# Altium footprint library MainPCB1.PcbLib: 49 footprints (part 3 of 4)
Each footprint in its own frame and in the unit in brackets; x right, y up, seen from the top. Pads: shape width x height; smd on the part's side, far side on the other; paste and mask are expansions set on the pad; w line width, h text height; cw(c..) or ccw(c..) is an arc to the next point about the centre after c.
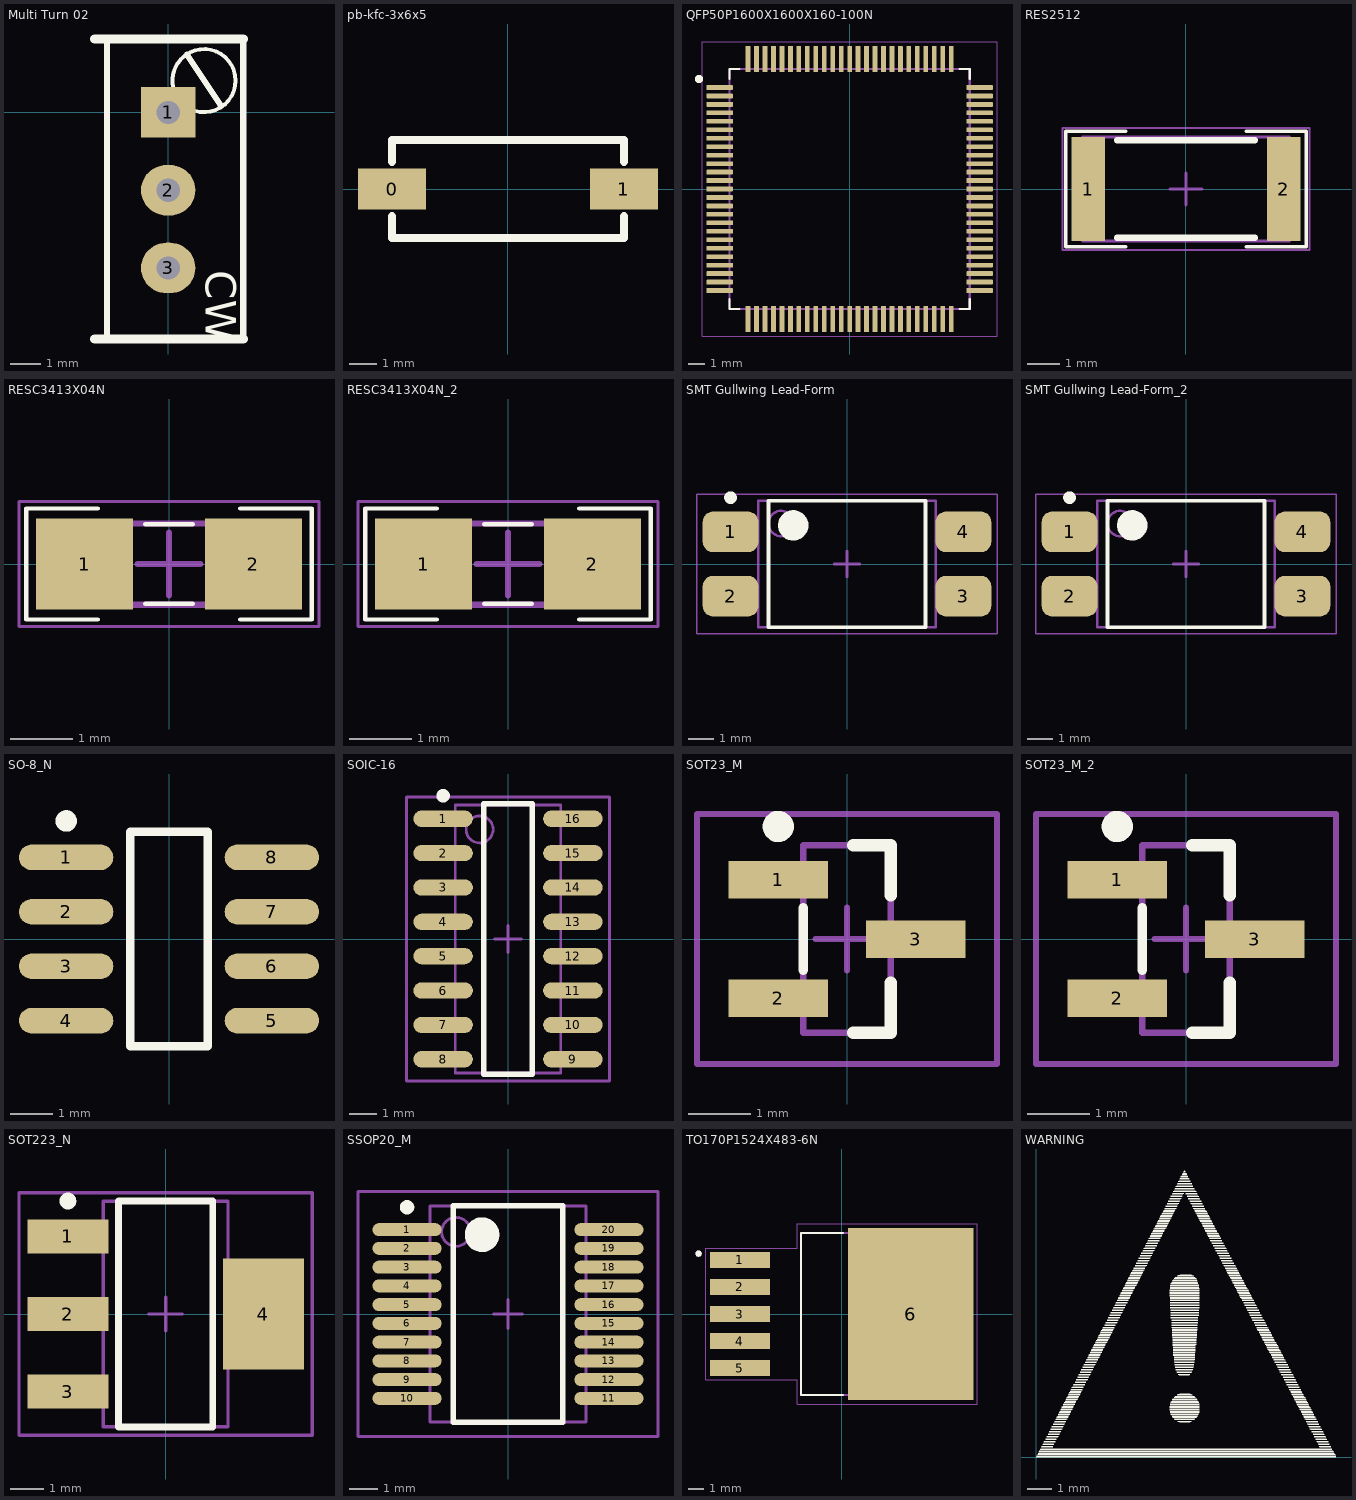
[diagram p2: the footprints below, top view; thin cyan lines are the x and y axes]

## Multi Turn 02 [mil]
pads (3):
  rect 70x65 hole 30: 1(0,0)
  oval 70x65 hole 30: 2(0,-100) 3(0,-200)
Top Overlay:
  circle w5: c46.03,40.94 r40.58
  lines w7.87: -78.74,-291.34 -78.74,94.49 ; 24.02,74.41 67.72,8.66 ; 96.46,-291.34 96.46,94.49
  lines w11.81: -94.49,-291.34 96.46,-291.34 ; -94.49,94.49 96.46,94.49
  text "CW" at 48,-203 h39.37
3D body "multiturn.STEP": height 452.18, standoff -75.38, extent -73.23,-285.04 92.52,88.98

## pb-kfc-3x6x5 [mm] "taktile switch"
pads (2):
  rect 2.5x1.5 smd: 0(-4.25,0) 1(4.25,0)
Top Overlay:
  lines w0.3: -4.25,-1 -4.25,-1.8 4.25,-1.8 4.25,-1 ; -4.25,1 -4.25,1.8 4.25,1.8 4.25,1
3D body: height 3.5, standoff 3.45, extent -4.25,-1.8 4.25,1.8
3D body: height 3.45, standoff 0, extent -4.25,-1.8 4.25,1.8
3D body: height 5, standoff 3, extent -1.5,-0.75 1.5,0.75

## QFP50P1600X1600X160-100N [mm]
pads (100):
  rrect25% 1.56x0.28 smd: 1(-7.68,6) 2(-7.68,5.5) 3(-7.68,5) 4(-7.68,4.5) 5(-7.68,4) 6(-7.68,3.5) 7(-7.68,3) 8(-7.68,2.5) 9(-7.68,2) 10(-7.68,1.5) 11(-7.68,1) 12(-7.68,0.5) 13(-7.68,0) 14(-7.68,-0.5) 15(-7.68,-1) 16(-7.68,-1.5) 17(-7.68,-2) 18(-7.68,-2.5) 19(-7.68,-3) 20(-7.68,-3.5) 21(-7.68,-4) 22(-7.68,-4.5) 23(-7.68,-5) 24(-7.68,-5.5) 25(-7.68,-6) 51(7.68,-6) 52(7.68,-5.5) 53(7.68,-5) 54(7.68,-4.5) 55(7.68,-4) 56(7.68,-3.5) 57(7.68,-3) 58(7.68,-2.5) 59(7.68,-2) 60(7.68,-1.5) 61(7.68,-1) 62(7.68,-0.5) 63(7.68,0) 64(7.68,0.5) 65(7.68,1) 66(7.68,1.5) 67(7.68,2) 68(7.68,2.5) 69(7.68,3) 70(7.68,3.5) 71(7.68,4) 72(7.68,4.5) 73(7.68,5) 74(7.68,5.5) 75(7.68,6)
  rrect25% 0.28x1.56 smd: 26(-6,-7.68) 27(-5.5,-7.68) 28(-5,-7.68) 29(-4.5,-7.68) 30(-4,-7.68) 31(-3.5,-7.68) 32(-3,-7.68) 33(-2.5,-7.68) 34(-2,-7.68) 35(-1.5,-7.68) 36(-1,-7.68) 37(-0.5,-7.68) 38(0,-7.68) 39(0.5,-7.68) 40(1,-7.68) 41(1.5,-7.68) 42(2,-7.68) 43(2.5,-7.68) 44(3,-7.68) 45(3.5,-7.68) 46(4,-7.68) 47(4.5,-7.68) 48(5,-7.68) 49(5.5,-7.68) 50(6,-7.68) 76(6,7.68) 77(5.5,7.68) 78(5,7.68) 79(4.5,7.68) 80(4,7.68) 81(3.5,7.68) 82(3,7.68) 83(2.5,7.68) 84(2,7.68) 85(1.5,7.68) 86(1,7.68) 87(0.5,7.68) 88(0,7.68) 89(-0.5,7.68) 90(-1,7.68) 91(-1.5,7.68) 92(-2,7.68) 93(-2.5,7.68) 94(-3,7.68) 95(-3.5,7.68) 96(-4,7.68) 97(-4.5,7.68) 98(-5,7.68) 99(-5.5,7.68) 100(-6,7.68)
Top Overlay:
  circle w0.24: c-8.9,6.5 r0.12
  lines w0.127: -7.1,-6.5 -7.1,-7.1 -6.5,-7.1 ; -7.1,6.5 -7.1,7.1 -6.5,7.1 ; 6.5,-7.1 7.1,-7.1 7.1,-6.5 ; 6.5,7.1 7.1,7.1 7.1,6.5
Mechanical 13:
  lines w0.127: -7.1,-7.1 -7.1,7.1 7.1,7.1 7.1,-7.1 -7.1,-7.1
Mechanical 15:
  lines w0.05: -8.71,-8.71 -8.71,8.71 8.71,8.71 8.71,-8.71 -8.71,-8.71
3D body "STM32F107VCT6.STEP": height 1.6, standoff 0, extent -8,-8 8,8

## RES2512 [mm] "Chip Resistor, 2-Leads, Body 6/40x3/20mm, IPC Medium Density DESIGNER:ABBAS BASEREH"
height 0.7
pads (2):
  rect 1.05x3.25 smd: 1(-3.05,0) 2(3.05,0)
Top Overlay:
  lines w0.1: -1.875,-1.8 -3.75,-1.8 -3.75,1.8 -1.875,1.8 ; 1.875,-1.8 3.75,-1.8 3.75,1.8 1.875,1.8
  lines w0.2: -2.15,-1.525 2.15,-1.525 ; -2.15,1.525 2.15,1.525
Mechanical 13:
  lines w0.1: -3.225,-1.625 -3.225,1.625 3.225,1.625 3.225,-1.625 -3.225,-1.625
Mechanical 15:
  lines w0.05: -3.85,-1.9 -3.85,1.9 3.85,1.9 3.85,-1.9 -3.85,-1.9
  lines w0.1: -0.5,0 0.5,0 ; 0,-0.5 0,0.5
3D body "RES2512.step": height 0.7, standoff 0, extent -3.225,-1.625 3.225,1.625

## RESC3413X04N [mm] "Chip Resistor, 2-Leads, Body 3/40x1/30mm, IPC Medium Density-Design:Abbas Basereh"
height 0.4
pads (2):
  rect 1.55x1.45 smd: 1(-1.35,0) 2(1.35,0)
Top Overlay:
  lines w0.07: -1.143,-0.889 -2.286,-0.889 -2.286,0.889 -1.143,0.889 ; -0.381,-0.635 0.381,-0.635 ; -0.381,0.635 0.381,0.635 ; 1.143,-0.889 2.286,-0.889 2.286,0.889 1.143,0.889
Mechanical 13:
  lines w0.1: -1.7,-0.65 -1.7,0.65 1.7,0.65 1.7,-0.65 -1.7,-0.65
Mechanical 15:
  lines w0.05: -2.4,-1 -2.4,1 2.4,1 2.4,-1 -2.4,-1
  lines w0.1: -0.5,0 0.5,0 ; 0,-0.5 0,0.5
3D body "User Library-0805(2012M) Res.STEP": height 0.79, standoff 0, extent -1.254,-0.622 1.254,0.622

## RESC3413X04N_2 [mm]
pads (2):
  rect 1.55x1.45 smd: 1(-1.35,0) 2(1.35,0)
Top Overlay:
  lines w0.07: -1.143,-0.889 -2.286,-0.889 -2.286,0.889 -1.143,0.889 ; -0.381,-0.635 0.381,-0.635 ; -0.381,0.635 0.381,0.635 ; 1.143,-0.889 2.286,-0.889 2.286,0.889 1.143,0.889
Mechanical 13:
  lines w0.1: -1.7,-0.65 1.7,-0.65 1.7,0.65 -1.7,0.65 -1.7,-0.65
Mechanical 15:
  lines w0.05: -2.4,-1 2.4,-1 2.4,1 -2.4,1 -2.4,-1
  lines w0.1: -0.5,0 0.5,0 ; 0,-0.5 0,0.5
3D body "User Library-0805(2012M) Res.STEP": height 0.79, standoff 0, extent -1.254,-0.622 1.254,0.622

## SMT Gullwing Lead-Form [mm] "SOP, 4-Leads, Body 4/65x6/75mm, Pitch 2/54mm, IPC Medium Density designer:abbas basereh"
height 3.5
pads (4):
  rrect50% 2.2x1.6 smd mask+0.06: 1(-4.6,1.27) 2(-4.6,-1.27) 3(4.6,-1.27) 4(4.6,1.27)
Top Overlay:
  circle w0.25: c-4.6,2.62 r0.125
  circle w0.6: c-2.125,1.525 r0.3
  lines w0.15: -3.1,-2.5 -3.1,2.5 3.1,2.5 3.1,-2.5 -3.1,-2.5
Mechanical 13:
  circle w0.1: c-2.6,1.6 r0.5
  lines w0.1: -3.5,-2.5 -3.5,2.5 3.5,2.5 3.5,-2.5 -3.5,-2.5
Mechanical 15:
  lines w0.05: -5.925,-2.75 -5.925,2.75 5.925,2.75 5.925,-2.75 -5.925,-2.75
  lines w0.1: -0.5,0 0.5,0 ; 0,-0.5 0,0.5
3D body "User Library-PC817_Gullwing.STEP": height 3.89, standoff 0.04, extent -5,-2.29 5,2.29

## SMT Gullwing Lead-Form_2 [mm]
pads (4):
  rrect50% 2.2x1.6 smd mask+0.06: 1(-4.6,1.27) 2(-4.6,-1.27) 3(4.6,-1.27) 4(4.6,1.27)
Top Overlay:
  circle w0.6: c-2.125,1.525 r0.3
  circle w0.25: c-4.6,2.62 r0.125
  lines w0.15: -3.1,-2.5 3.1,-2.5 3.1,2.5 -3.1,2.5 -3.1,-2.5
Mechanical 13:
  circle w0.1: c-2.6,1.6 r0.5
  lines w0.1: -3.5,-2.5 3.5,-2.5 3.5,2.5 -3.5,2.5 -3.5,-2.5
Mechanical 15:
  lines w0.05: -5.925,-2.75 5.925,-2.75 5.925,2.75 -5.925,2.75 -5.925,-2.75
  lines w0.1: -0.5,0 0.5,0 ; 0,-0.5 0,0.5
3D body "User Library-PC817_Gullwing.STEP": height 3.89, standoff 0.04, extent -5,-2.29 5,2.29

## SO-8_N [mm] "SOIC, 8-Leads, Body 4.9x3.9mm, Pitch 1.27mm, IPC Medium Density"
height 1.75
pads (8):
  oval 2.2x0.6 smd: 1(-2.4,1.905) 2(-2.4,0.635) 3(-2.4,-0.635) 4(-2.4,-1.905) 5(2.4,-1.905) 6(2.4,-0.635) 7(2.4,0.635) 8(2.4,1.905)
Top Overlay:
  circle w0.25: c-2.4,2.755 r0.125
  lines w0.2: -0.9,-2.5 -0.9,2.5 0.9,2.5 0.9,-2.5 -0.9,-2.5
3D body "so-8.step": height 1.88, standoff -0.03, extent -3.169,-2.515 3.169,2.489

## SOIC-16 [mm] "SOIC, 16-Leads, Body 9.9x3.9mm, Pitch 1.27mm, IPC Medium Density"
height 1.75
pads (16):
  oval 2.2x0.6 smd: 1(-2.4,4.445) 2(-2.4,3.175) 3(-2.4,1.905) 4(-2.4,0.635) 5(-2.4,-0.635) 6(-2.4,-1.905) 7(-2.4,-3.175) 8(-2.4,-4.445) 9(2.4,-4.445) 10(2.4,-3.175) 11(2.4,-1.905) 12(2.4,-0.635) 13(2.4,0.635) 14(2.4,1.905) 15(2.4,3.175) 16(2.4,4.445)
Top Overlay:
  circle w0.25: c-2.4,5.295 r0.125
  lines w0.2: -0.9,-5 0.9,-5 0.9,5 -0.9,5 -0.9,-5
Mechanical 13:
  circle w0.1: c-1.05,4.05 r0.5
  lines w0.1: -1.95,-4.95 1.95,-4.95 1.95,4.95 -1.95,4.95 -1.95,-4.95
Mechanical 15:
  lines w0.1: -0.5,0 0.5,0 ; 0,-0.5 0,0.5 ; -3.75,-5.25 3.75,-5.25 3.75,5.25 -3.75,5.25 -3.75,-5.25
3D body "User Library-SOIC-16-2.STEP": height 1.75, standoff 0, extent -2.977,-4.996 3.023,5.004

## SOT23_M [mm] "SOT23, 3-Leads, Body 2.9x1.3mm, Pitch 0.95mm, Lead Span 2.3mm, IPC Low Density"
height 1.1
pads (3):
  rect 1.6x0.6 smd: 1(-1.1,0.95) 2(-1.1,-0.95) 3(1.1,0)
Top Overlay:
  circle w0.25: c-1.1,1.8 r0.125
  lines w0.15: -0.7,-0.5 -0.7,0.5
  lines w0.2: 0.1,-1.5 0.7,-1.5 0.7,-0.7 ; 0.1,1.5 0.7,1.5 0.7,0.7
Mechanical 13:
  lines w0.1: -0.7,-1.5 0.7,-1.5 0.7,1.5 -0.7,1.5 -0.7,-1.5
Mechanical 15:
  lines w0.1: -0.5,0 0.5,0 ; 0,-0.5 0,0.5 ; -2.4,-2 2.4,-2 2.4,2 -2.4,2 -2.4,-2
3D body "User Library-SOT-23-3-1.STEP": height 1.1, standoff 0, extent -1.271,-1.5 1.271,1.5

## SOT23_M_2 [mm]
pads (3):
  rect 1.6x0.6 smd: 1(-1.1,0.95) 2(-1.1,-0.95) 3(1.1,0)
Top Overlay:
  circle w0.25: c-1.1,1.8 r0.125
  lines w0.15: -0.7,-0.5 -0.7,0.5
  lines w0.2: 0.1,-1.5 0.7,-1.5 0.7,-0.7 ; 0.1,1.5 0.7,1.5 0.7,0.7
Mechanical 13:
  lines w0.1: -0.7,-1.5 0.7,-1.5 0.7,1.5 -0.7,1.5 -0.7,-1.5
Mechanical 15:
  lines w0.1: -0.5,0 0.5,0 ; 0,-0.5 0,0.5 ; -2.4,-2 2.4,-2 2.4,2 -2.4,2 -2.4,-2
3D body "User Library-SOT-23-3-1.STEP": height 1.1, standoff 0, extent -1.271,-1.5 1.271,1.5

## SOT223_N [mm] "SOT223, 4-Leads, Body 6.5x3.5mm, Pitch 2.3mm, Lead Span 7mm, IPC Medium Density"
height 1.8
pads (4):
  rect 2.4x1 smd: 1(-2.9,2.3) 2(-2.9,0) 3(-2.9,-2.3)
  rect 2.4x3.3 smd: 4(2.9,0)
Top Overlay:
  circle w0.25: c-2.9,3.35 r0.125
  lines w0.2: -1.4,-3.35 -1.4,3.35 1.4,3.35 1.4,-3.35 -1.4,-3.35
Mechanical 13:
  lines w0.1: -1.85,-3.35 -1.85,3.35 1.85,3.35 1.85,-3.35 -1.85,-3.35
Mechanical 15:
  lines w0.1: -0.5,0 0.5,0 ; 0,-0.5 0,0.5 ; -4.35,-3.6 -4.35,3.6 4.35,3.6 4.35,-3.6 -4.35,-3.6
3D body "TO-223.STEP": height 1.64, standoff -0.04, extent -3.49,-3.242 3.49,3.242

## SSOP20_M [mm] "SOP, 20-Leads, Body 7.2x5.3mm, Pitch 0.65mm, IPC Low Density"
height 1.99
pads (20):
  oval 2.4x0.45 smd: 1(-3.5,2.925) 2(-3.5,2.275) 3(-3.5,1.625) 4(-3.5,0.975) 5(-3.5,0.325) 6(-3.5,-0.325) 7(-3.5,-0.975) 8(-3.5,-1.625) 9(-3.5,-2.275) 10(-3.5,-2.925) 11(3.5,-2.925) 12(3.5,-2.275) 13(3.5,-1.625) 14(3.5,-0.975) 15(3.5,-0.325) 16(3.5,0.325) 17(3.5,0.975) 18(3.5,1.625) 19(3.5,2.275) 20(3.5,2.925)
Top Overlay:
  circle w0.6: c-0.9,2.75 r0.3
  circle w0.25: c-3.5,3.7 r0.125
  lines w0.2: -1.9,-3.75 1.9,-3.75 1.9,3.75 -1.9,3.75 -1.9,-3.75
Mechanical 13:
  circle w0.1: c-1.8,2.85 r0.5
  lines w0.1: -2.7,-3.75 2.7,-3.75 2.7,3.75 -2.7,3.75 -2.7,-3.75
Mechanical 15:
  lines w0.1: -0.5,0 0.5,0 ; 0,-0.5 0,0.5 ; -5.2,-4.25 5.2,-4.25 5.2,4.25 -5.2,4.25 -5.2,-4.25
3D body: height 1.99, standoff 0, extent -2.7,-3.75 2.7,3.75

## TO170P1524X483-6N [mm]
pads (6):
  rect 3.79x0.99 smd: 1(-6.4,3.4) 2(-6.4,1.7) 3(-6.4,0) 4(-6.4,-1.7) 5(-6.4,-3.4)
  rect 7.88x10.84 smd paste-6: 6(4.35,0)
Top Overlay:
  circle w0.2: c-9,3.8 r0.1
  lines w0.127: 0.09,-5.08 -2.553,-5.08 -2.553,5.08 0.09,5.08
Top Paste:
  region: 5.11,0.28 3.59,0.28 3.59,1.53 5.11,1.53
  region: 2.48,0.28 0.96,0.28 0.96,1.53 2.48,1.53
  region: 7.74,0.28 6.22,0.28 6.22,1.53 7.74,1.53
  region: 5.11,2.09 3.59,2.09 3.59,3.34 5.11,3.34
  region: 2.48,2.09 0.96,2.09 0.96,3.34 2.48,3.34
  region: 7.74,2.09 6.22,2.09 6.22,3.34 7.74,3.34
  region: 5.11,3.9 3.59,3.9 3.59,5.15 5.11,5.15
  region: 2.48,3.9 0.96,3.9 0.96,5.15 2.48,5.15
  region: 7.74,3.9 6.22,3.9 6.22,5.15 7.74,5.15
  region: 5.11,-1.53 3.59,-1.53 3.59,-0.28 5.11,-0.28
  region: 2.48,-1.53 0.96,-1.53 0.96,-0.28 2.48,-0.28
  region: 7.74,-1.53 6.22,-1.53 6.22,-0.28 7.74,-0.28
  region: 5.11,-3.34 3.59,-3.34 3.59,-2.09 5.11,-2.09
  region: 2.48,-3.34 0.96,-3.34 0.96,-2.09 2.48,-2.09
  region: 7.74,-3.34 6.22,-3.34 6.22,-2.09 7.74,-2.09
  region: 5.11,-5.15 3.59,-5.15 3.59,-3.9 5.11,-3.9
  region: 2.48,-5.15 0.96,-5.15 0.96,-3.9 2.48,-3.9
  region: 7.74,-5.15 6.22,-5.15 6.22,-3.9 7.74,-3.9
Mechanical 13:
  circle w0.2: c-9,3.8 r0.1
  lines w0.127: -2.553,-5.08 6.368,-5.08 6.368,5.08 -2.553,5.08 -2.553,-5.08
Mechanical 15:
  lines w0.05: -8.545,-4.145 -8.545,4.145 -2.803,4.145 -2.803,5.67 8.54,5.67 8.54,-5.67 -2.803,-5.67 -2.803,-4.145 -8.545,-4.145
3D body "NOPB.STEP": height 4.65, standoff -0.15, extent -7.556,-5.08 6.795,5.08

## WARNING [mm]
Top Overlay:
  drawing of 1078 lines, arcs and shapes, not listed